# Altium footprint library C4AQLLW5450A38K.PcbLib: 1 footprints
Each footprint in its own frame and in the unit in brackets; x right, y up, seen from the top. Pads: shape width x height; smd on the part's side, far side on the other; paste and mask are expansions set on the pad; w line width, h text height; cw(c..) or ccw(c..) is an arc to the next point about the centre after c.
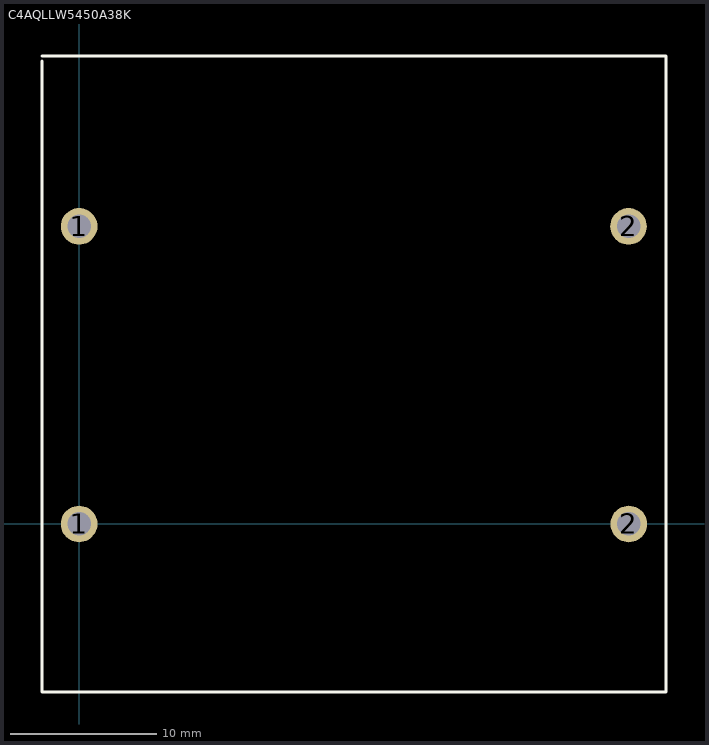
[diagram p0: the footprint, top view; thin cyan lines are the x and y axes]

## C4AQLLW5450A38K [mm]
height 25
pads (4):
  round 2.5 hole 1.6: 1(0,0) 1(0,20.3) 2(37.48,20.3) 2(37.5,0)
Top Overlay:
  lines w0.2: -2.545,11.285 -2.545,31.575 ; -2.545,31.935 34.955,31.935 40.05,31.935 40.05,2.55 40.05,-11.475 37.4,-11.475 -2.525,-11.475 -2.525,11.275
3D body "C4AQLLW5450A38K.step": height 25.2, standoff -6, extent -2.55,-11.477 40.05,31.927